# EAGLE library part AK4558EN (library ak4558en)
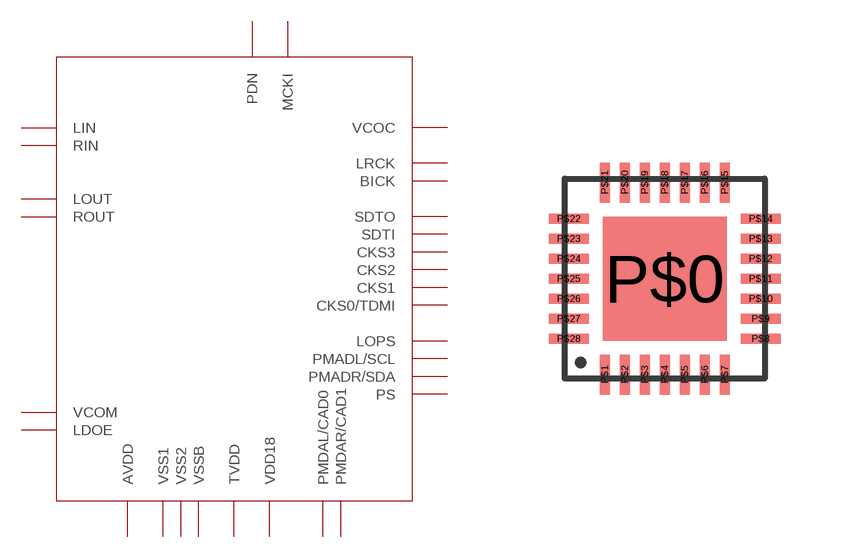
[diagram p0: symbol with the pads of 28-QFN; footprint 28-QFN]

Designator prefix -

## AK4558EN  [28-QFN]
P$0  VSSB
P$1  VCOC
P$2  PS  in
P$3  CKS3  in
P$4  CKS2
P$5  CKS1  in
P$6  CKS0/TDMI  in
P$7  LRCK
P$8  SDTO  out
P$9  BICK  out
P$10  SDTI  in
P$11  MCKI  in
P$12  TVDD  pwr
P$13  VSS2  pwr
P$14  VDD18
P$15  PDN  in
P$16  PMADL/SCL  in
P$17  PMADR/SDA
P$18  PMDAL/CAD0  in
P$19  PMDAR/CAD1  in
P$20  LOPS  in
P$21  LDOE  in
P$22  LIN  in
P$23  RIN  in
P$24  AVDD  pwr
P$25  VSS1  pwr
P$26  VCOM  out
P$27  LOUT  out
P$28  ROUT  out

## Footprint 28-QFN (pad centres in mm)
smd 3.1 x 3.1: P$0 0,0
smd 0.25 x 1: P$1 -1.5,-2.4; P$2 -1,-2.4; P$3 -0.5,-2.4; P$4 0,-2.4; P$5 0.5,-2.4; P$6 1,-2.4; P$7 1.5,-2.4; P$15 1.5,2.4; P$16 1,2.4; P$17 0.5,2.4; P$18 0,2.4; P$19 -0.5,2.4; P$20 -1,2.4; P$21 -1.5,2.4
smd 1 x 0.25: P$8 2.4,-1.5; P$9 2.4,-1; P$10 2.4,-0.5; P$11 2.4,0; P$12 2.4,0.5; P$13 2.4,1; P$14 2.4,1.5; P$22 -2.4,1.5; P$23 -2.4,1; P$24 -2.4,0.5; P$25 -2.4,0; P$26 -2.4,-0.5; P$27 -2.4,-1; P$28 -2.4,-1.5